# Altium footprint library PCB1.PcbLib: 25 footprints (part 2 of 2)
Each footprint in its own frame and in the unit in brackets; x right, y up, seen from the top. Pads: shape width x height; smd on the part's side, far side on the other; paste and mask are expansions set on the pad; w line width, h text height; cw(c..) or ccw(c..) is an arc to the next point about the centre after c.
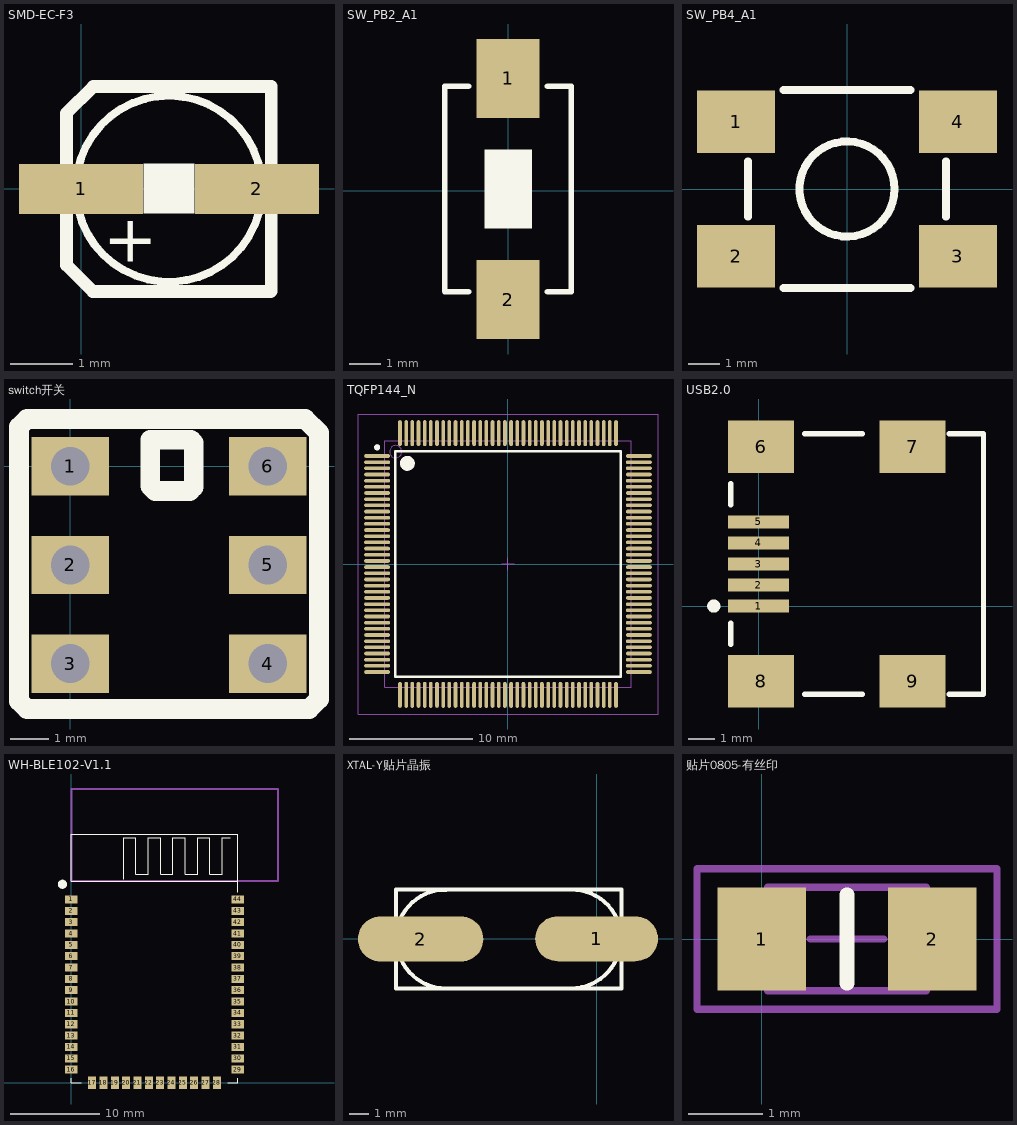
[diagram p1: the footprints below, top view; thin cyan lines are the x and y axes]

## SMD-EC-F3 [mm]
pads (2):
  rect 2x0.8 smd: 1(0,0) 2(2.835,0)
Top Overlay:
  rectangle: 1.003,-0.399 1.832,0.407
  lines w0.127: 2.777,0.636 ccw(c1.417,0.003) 2.777,0.634
  lines w0.203: 0.19,1.646 -0.234,1.222 -0.234,-1.229 0.19,-1.653 3.059,-1.653 ; 0.195,1.651 3.066,1.651 3.066,-1.647
  text "+" at 0.361,-1.174 h0.76

## SW_PB2_A1 [mm]
pads (2):
  rect 2x2.5 smd: 1(0,3.556) 2(0,-3.444)
Top Overlay:
  region: -0.747,1.309 -0.747,-1.191 0.753,-1.191 0.753,1.309
  lines w0.178: -1.25,-3.194 -2,-3.19 -2,3.306 -1.25,3.306 ; 1.25,-3.194 2,-3.194 2,3.306 1.25,3.306
3D body: height 0.8, standoff 0, extent -2.032,-3.175 2.032,3.302
3D body: height 1.2, standoff 0.8, extent -0.762,-1.143 0.762,1.27

## SW_PB4_A1 [mm]
pads (4):
  rect 2.5x2 smd: 1(-3.556,2.159) 2(-3.556,-2.159) 3(3.556,-2.159) 4(3.556,2.159)
Top Overlay:
  circle w0.254: c0,0 r1.524
  lines w0.25: -3.175,-0.889 -3.175,0.889 ; -2.032,-3.175 2.032,-3.175 ; -2.032,3.175 2.032,3.175 ; 3.175,-0.889 3.175,0.889
3D body: height 1.5, standoff 0, extent -3.175,-3.175 3.175,3.175
3D body: height 6, standoff 0, extent -1.524,-1.524 1.524,1.524

## switch开关 [mm]
pads (6):
  rect 2x1.5 hole 1: 1(0,0) 2(0,-2.54) 3(0,-5.08) 4(5.08,-5.08) 5(5.08,-2.54) 6(5.08,0)
Top Overlay:
  lines w0.508: -1.321,-6.045 -1.321,1.016 -1.118,1.219 6.045,1.219 6.401,0.864 6.401,-5.994 6.147,-6.248 -1.118,-6.248 -1.321,-6.045 ; 2.057,-0.508 2.057,0.686 2.286,0.686 3.099,0.686 3.175,0.61 3.175,-0.533 3.073,-0.635 2.184,-0.635 2.057,-0.508

## TQFP144_N [mm] "TTM32V103ZET6"
height 1.6
pads (144):
  oval 2.1x0.3 smd: 1(-10.6,8.75) 2(-10.6,8.25) 3(-10.6,7.75) 4(-10.6,7.25) 5(-10.6,6.75) 6(-10.6,6.25) 7(-10.6,5.75) 8(-10.6,5.25) 9(-10.6,4.75) 10(-10.6,4.25) 11(-10.6,3.75) 12(-10.6,3.25) 13(-10.6,2.75) 14(-10.6,2.25) 15(-10.6,1.75) 16(-10.6,1.25) 17(-10.6,0.75) 18(-10.6,0.25) 19(-10.6,-0.25) 20(-10.6,-0.75) 21(-10.6,-1.25) 22(-10.6,-1.75) 23(-10.6,-2.25) 24(-10.6,-2.75) 25(-10.6,-3.25) 26(-10.6,-3.75) 27(-10.6,-4.25) 28(-10.6,-4.75) 29(-10.6,-5.25) 30(-10.6,-5.75) 31(-10.6,-6.25) 32(-10.6,-6.75) 33(-10.6,-7.25) 34(-10.6,-7.75) 35(-10.6,-8.25) 36(-10.6,-8.75) 73(10.6,-8.75) 74(10.6,-8.25) 75(10.6,-7.75) 76(10.6,-7.25) 77(10.6,-6.75) 78(10.6,-6.25) 79(10.6,-5.75) 80(10.6,-5.25) 81(10.6,-4.75) 82(10.6,-4.25) 83(10.6,-3.75) 84(10.6,-3.25) 85(10.6,-2.75) 86(10.6,-2.25) 87(10.6,-1.75) 88(10.6,-1.25) 89(10.6,-0.75) 90(10.6,-0.25) 91(10.6,0.25) 92(10.6,0.75) 93(10.6,1.25) 94(10.6,1.75) 95(10.6,2.25) 96(10.6,2.75) 97(10.6,3.25) 98(10.6,3.75) 99(10.6,4.25) 100(10.6,4.75) 101(10.6,5.25) 102(10.6,5.75) 103(10.6,6.25) 104(10.6,6.75) 105(10.6,7.25) 106(10.6,7.75) 107(10.6,8.25) 108(10.6,8.75)
  oval 0.3x2.1 smd: 37(-8.75,-10.6) 38(-8.25,-10.6) 39(-7.75,-10.6) 40(-7.25,-10.6) 41(-6.75,-10.6) 42(-6.25,-10.6) 43(-5.75,-10.6) 44(-5.25,-10.6) 45(-4.75,-10.6) 46(-4.25,-10.6) 47(-3.75,-10.6) 48(-3.25,-10.6) 49(-2.75,-10.6) 50(-2.25,-10.6) 51(-1.75,-10.6) 52(-1.25,-10.6) 53(-0.75,-10.6) 54(-0.25,-10.6) 55(0.25,-10.6) 56(0.75,-10.6) 57(1.25,-10.6) 58(1.75,-10.6) 59(2.25,-10.6) 60(2.75,-10.6) 61(3.25,-10.6) 62(3.75,-10.6) 63(4.25,-10.6) 64(4.75,-10.6) 65(5.25,-10.6) 66(5.75,-10.6) 67(6.25,-10.6) 68(6.75,-10.6) 69(7.25,-10.6) 70(7.75,-10.6) 71(8.25,-10.6) 72(8.75,-10.6) 109(8.75,10.6) 110(8.25,10.6) 111(7.75,10.6) 112(7.25,10.6) 113(6.75,10.6) 114(6.25,10.6) 115(5.75,10.6) 116(5.25,10.6) 117(4.75,10.6) 118(4.25,10.6) 119(3.75,10.6) 120(3.25,10.6) 121(2.75,10.6) 122(2.25,10.6) 123(1.75,10.6) 124(1.25,10.6) 125(0.75,10.6) 126(0.25,10.6) 127(-0.25,10.6) 128(-0.75,10.6) 129(-1.25,10.6) 130(-1.75,10.6) 131(-2.25,10.6) 132(-2.75,10.6) 133(-3.25,10.6) 134(-3.75,10.6) 135(-4.25,10.6) 136(-4.75,10.6) 137(-5.25,10.6) 138(-5.75,10.6) 139(-6.25,10.6) 140(-6.75,10.6) 141(-7.25,10.6) 142(-7.75,10.6) 143(-8.25,10.6) 144(-8.75,10.6)
Top Overlay:
  circle w0.6: c-8.15,8.15 r0.3
  circle w0.25: c-10.6,9.45 r0.125
  lines w0.2: -9.15,-9.15 9.15,-9.15 9.15,9.15 -9.15,9.15 -9.15,-9.15
Mechanical 13:
  circle w0.1: c-9.1,9.1 r0.5
  lines w0.1: -10,-10 10,-10 10,10 -10,10 -10,-10
Mechanical 15:
  lines w0.1: -0.5,0 0.5,0 ; 0,-0.5 0,0.5 ; -12.15,-12.15 12.15,-12.15 12.15,12.15 -12.15,12.15 -12.15,-12.15
3D body: height 1.6, standoff 0, extent -10,-10 10,10

## USB2.0 [mm]
pads (9):
  rect 2.3x0.5 smd: 1(0,0) 2(0,0.8) 3(0,1.6) 4(0,2.4) 5(0,3.2)
  rect 2.5x2 smd: 6(0.1,6.05) 7(5.854,6.05) 8(0.1,-2.85) 9(5.854,-2.85)
Top Overlay:
  circle w0.25: c-1.7,0 r0.125
  lines w0.2: -1.05,-1.45 -1.05,-0.65 ; -1.05,3.85 -1.05,4.65 ; 1.75,-3.35 3.95,-3.35 ; 1.75,6.55 3.95,6.55 ; 7.25,-3.35 8.55,-3.35 8.55,6.55 7.25,6.55

## WH-BLE102-V1.1 [mm]
pads (44):
  rect 1.4x0.9 smd: 1(0,20.52) 2(0,19.25) 3(0,17.98) 4(0,16.71) 5(0,15.44) 6(0,14.17) 7(0,12.9) 8(0,11.63) 9(0,10.36) 10(0,9.09) 11(0,7.82) 12(0,6.55) 13(0,5.28) 14(0,4.01) 15(0,2.74) 16(0,1.47) 29(18.62,1.47) 30(18.62,2.74) 31(18.62,4.01) 32(18.62,5.28) 33(18.62,6.55) 34(18.62,7.82) 35(18.62,9.09) 36(18.62,10.36) 37(18.62,11.63) 38(18.62,12.9) 39(18.62,14.17) 40(18.62,15.44) 41(18.62,16.71) 42(18.62,17.98) 43(18.62,19.25) 44(18.62,20.52)
  rect 0.9x1.4 smd: 17(2.31,0) 18(3.58,0) 19(4.85,0) 20(6.12,0) 21(7.39,0) 22(8.66,0) 23(9.93,0) 24(11.2,0) 25(12.47,0) 26(13.74,0) 27(15.02,0) 28(16.29,0)
Top Overlay:
  circle w0.508: c-1.016,22.225 r0.254
  lines w0.07: 0,0.5 0,0 1.12,0 ; 5.836,22.76 5.836,23.36 5.836,27.43 ; 5.836,27.42 7.206,27.42 ; 7.216,23.37 7.216,27.43 7.216,23.36 8.596,23.36 8.596,27.43 ; 8.596,23.37 8.596,27.43 ; 9.976,23.37 9.976,27.43 ; 11.346,23.36 9.976,23.36 9.976,27.43 ; 11.356,23.35 11.356,27.42 ; 11.356,23.37 11.356,27.43 12.726,27.43 ; 12.736,23.37 14.116,23.37 14.116,27.43 14.116,23.36 ; 12.736,27.42 12.736,23.36 12.736,27.43 ; 14.116,27.42 15.496,27.42 ; 15.496,23.36 15.496,27.43 ; 16.876,27.42 17.796,27.42 ; 16.876,27.43 16.876,23.37 15.496,23.37 ; 17.5,0 18.62,0 18.62,0.5 ; 18.62,21.31 18.62,23.07 ; 18.62,21.5 18.62,27.813 0,27.813 0,22.55 18.62,22.55 ; 8.596,27.43 9.976,27.43 ; 15.496,23.37 15.496,27.43 ; 15.496,23.37 15.496,27.43
Mechanical 6:
  lines w0.203: 0,22.606 0,32.893 23.114,32.893 23.114,22.606 0,22.606
  text "Polygon Pour cutout" at 1.651,28.956 h1.02

## XTAL-Y贴片晶振 [mil]
pads (2):
  oval 245x90 smd: 1(0,0)
  oval 250x90 smd: 2(-350.39,-0.34)
Top Overlay:
  lines w7.87: -399.59,-98.56 49.93,-98.56 ; -399.59,-98.42 -399.59,-40.17 ; -399.59,39.83 -399.59,98.42 49.93,98.42 49.93,39.83 ; -390.82,40.11 cw(c-301.24,-0.68) -300.2,97.74 ; -390.2,-40.17 ccw(c-300.25,-0.2) -300.25,-98.62 ; -50.2,-98.59 ccw(c-50.2,-0.17) 39.75,-40.14 ; -50.19,98.08 cw(c-49.15,-0.34) 40.55,40.17 ; 49.93,-98.42 49.93,-40.17

## 贴片0805-有丝印 [mm]
pads (2):
  rect 1.2x1.4 smd: 1(0,0) 2(2.308,0)
Top Overlay:
  lines w0.2: 1.154,-0.6 1.154,0.6
Mechanical 13:
  lines w0.1: 0.079,-0.7 0.079,0.7 2.229,0.7 2.229,-0.7 0.079,-0.7
Mechanical 15:
  lines w0.1: 0.654,0 1.654,0 ; 1.154,-0.5 1.154,0.5 ; -0.878,-0.95 -0.878,0.95 3.186,0.95 3.186,-0.95 -0.878,-0.95
3D body: height 0.7, standoff 0, extent 0.079,-0.7 2.229,0.7